# Altium footprint library RX5808.PcbLib: 1 footprints
Each footprint in its own frame and in the unit in brackets; x right, y up, seen from the top. Pads: shape width x height; smd on the part's side, far side on the other; paste and mask are expansions set on the pad; w line width, h text height; cw(c..) or ccw(c..) is an arc to the next point about the centre after c.
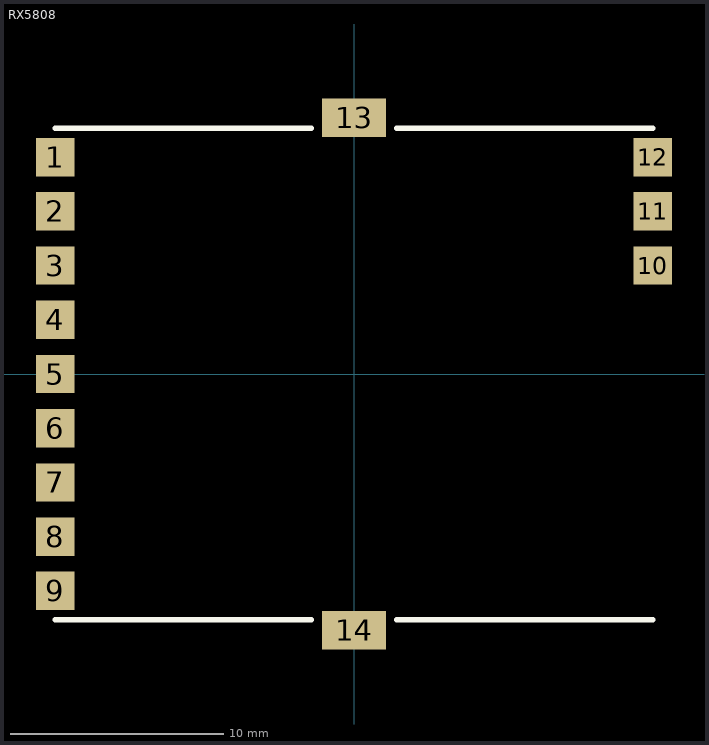
[diagram p0: the footprint, top view; thin cyan lines are the x and y axes]

## RX5808 [mm]
pads (14):
  rect 1.8x1.8 smd: 1(-14,10.16) 2(-14,7.62) 3(-14,5.08) 4(-14,2.54) 5(-14,0) 6(-14,-2.54) 7(-14,-5.08) 8(-14,-7.62) 9(-14,-10.16) 10(14,5.08) 11(14,7.62) 12(14,10.16)
  rect 3x1.8 smd: 13(0,12) 14(0,-12)
Top Overlay:
  lines w0.2: 4.7,11.5 9.5,11.5 14,11.5 ; 9,-11.5 14,-11.5
  lines w0.254: -14,-11.5 -2,-11.5 ; -14,11.5 -2,11.5 ; 2,-11.5 14,-11.5 ; 2,11.5 14,11.5
3D body: height 3, standoff 1, extent -12.5,-11 12.5,11
3D body: height 1, standoff 0, extent -14,-11.625 14,11.625